# Altium footprint library AHT10 Module.PcbLib: 1 footprints
Each footprint in its own frame and in the unit in brackets; x right, y up, seen from the top. Pads: shape width x height; smd on the part's side, far side on the other; paste and mask are expansions set on the pad; w line width, h text height; cw(c..) or ccw(c..) is an arc to the next point about the centre after c.
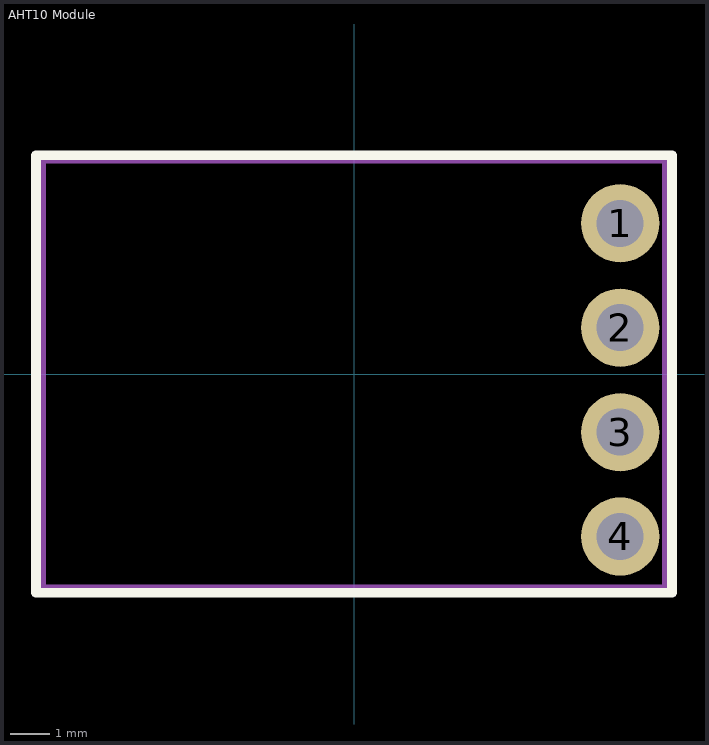
[diagram p0: the footprint, top view; thin cyan lines are the x and y axes]

## AHT10 Module [mm]
pads (4):
  round 2 hole 1.2: 1(6.8,3.85) 2(6.8,1.185) 3(6.8,-1.485) 4(6.8,-4.15)
Top Overlay:
  lines w0.254: -8.128,-5.588 8.128,-5.588 8.128,5.588 -8.128,5.588 -8.128,-5.588
Mechanical 1:
  lines w0.254: -8,-5.5 8,-5.5 8,5.5 -8,5.5 -8,-5.5
3D body "TSW-104-07-S-S-LL.stp": height 5.19, standoff -5.73, extent 5.53,-5.23 8.07,5.057
3D body "AHT0 module v3.step": height 5.76, standoff 2.66, extent -7.7,-5.4 7.7,5.4